# Altium footprint library LAB2.PcbLib: 3 footprints
Each footprint in its own frame and in the unit in brackets; x right, y up, seen from the top. Pads: shape width x height; smd on the part's side, far side on the other; paste and mask are expansions set on the pad; w line width, h text height; cw(c..) or ccw(c..) is an arc to the next point about the centre after c.
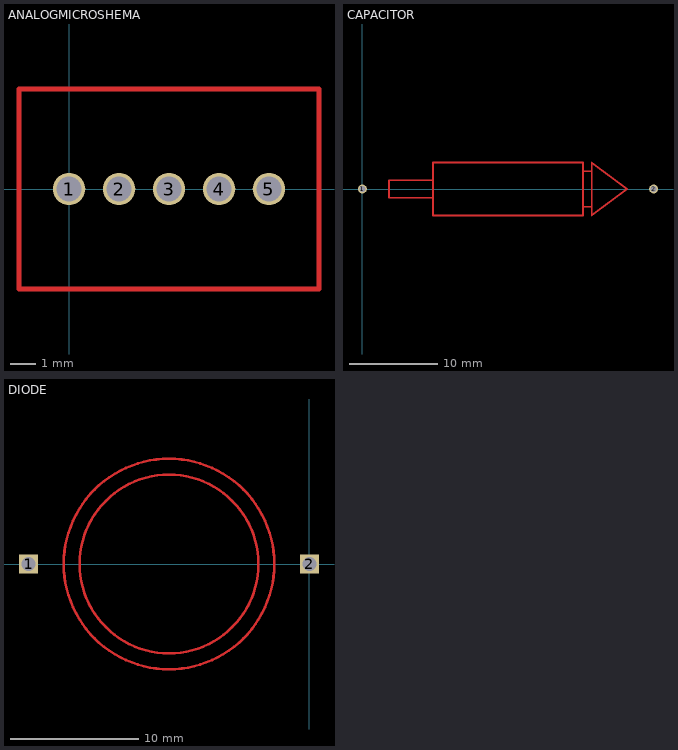
[diagram p0: the footprints below, top view; thin cyan lines are the x and y axes]

## ANALOGMICROSHEMA [mm]
pads (5):
  round 1.3 hole 1: 1(0,0) 2(2,0) 3(4,0) 4(6,0) 5(8,0)
Top Layer:
  lines w0.2: -2,-4 10,-4 10,4 -2,4 -2,-4

## CAPACITOR [mm]
pads (2):
  round 1 hole 0.7: 1(0,0) 2(33,0)
Top Layer:
  lines w0.2: 8,-1 3,-1 3,1 8,1 ; 25,-2 26,-2 ; 25,2 26,2 ; 8,-3 25,-3 25,3 8,3 8,-3 ; 26,-3 30,0 26,3 26,-3

## DIODE [mm]
pads (2):
  rect 1.5x1.5 hole 1.1: 1(-22,0) 2(0,0)
Top Layer:
  circle w0.2: c-11,0 r8.246
  circle w0.2: c-11,0 r7